# Altium schematic symbol library CM8V-T1A-32.768KHZ-7PF-20PPM-TA-QC.SchLib: 1 symbol
Pins are listed as number, name and electrical type; pins without a type are passive.

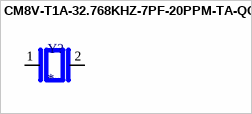
[diagram p0: symbol CM8V-T1A-32.768KHZ-7PF-20PPM-TA-QC]

## CM8V-T1A-32.768KHZ-7PF-20PPM-TA-QC
designator Y?
MF: {'manufacturer': u'Micro Crystal'}; MP: CM8V-T1A-32.768KHZ-7PF-20PPM-TA-QC; Package: None; Price: None; Value: *; Availability: Unavailable
footprint XTAL_CM8V-T1A-32.768KHZ-7PF-20PPM-TA-QC
pins: 1, 2